# EAGLE library part TE11-8 (library J-CylConn)
Receptacles, Printed Circuit Board Mount with .025 [0.64] sq. solder tails TE11RR-8SPCB [AMP,1-208657-1] RECEPTICAL REV FLANGED PCB-MNT SERIES2 TE11-8 TE11RRF-8S [AMP,206433-1] RECEPTICAL REV FLANGED SERIES2 TE11-8 TE11RR-8S [AMP,206433-2] RECEPTICAL FREE HANGING REV SERIES2 TE11-8 TE11PR-8P [AMP,206434-1] PLUG REV SERIES2 TE11-8 TE-PIN20DF [AMP,1-66506-0] PIN 20-24AWG CRIMP SERIES2 TE-SOC20DF [AMP,66504-9] SOCKET 20-24AWG CRIMP SERIES2 TE-SH11 [AMP,1-206062-4] SHELL SZ11
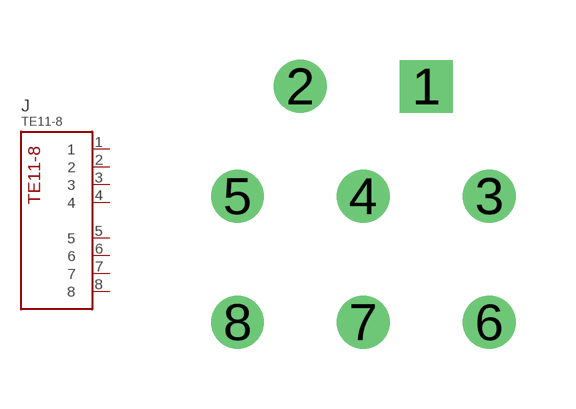
[diagram p4: symbol with the pads of TE11-8; footprint TE11-8]

Designator prefix J

## TE11-8  [TE11-8]
1  1
2  2
3  3
4  4
5  5
6  6
7  7
8  8

## Footprint TE11-8 (pad centres in mm)
Receptacles, Printed Circuit Board Mount with .025 [0.64] sq. solder tails TE11RR-8SPCB [AMP,1-208657-1] RECEPTICAL REV FLANGED PCB-MNT SERIES2 TE11-8 NOTE: only Reverse sex Receptacles are of this size. It is worth noting that the locations on datasheet are seen looking from back of connector but looking at the top of PCB the locations are fliped (as seen in a mirror).
drill 0.813 square: 1 1.575,3.581
drill 0.813: 2 -1.575,3.581; 3 3.15,0.838; 4 0,0.838; 5 -3.15,0.838; 6 3.15,-2.311; 7 0,-2.311; 8 -3.15,-2.311